# Altium footprint library TQFP-64_14x14x08P.PcbLib: 1 footprints
Each footprint in its own frame and in the unit in brackets; x right, y up, seen from the top. Pads: shape width x height; smd on the part's side, far side on the other; paste and mask are expansions set on the pad; w line width, h text height; cw(c..) or ccw(c..) is an arc to the next point about the centre after c.
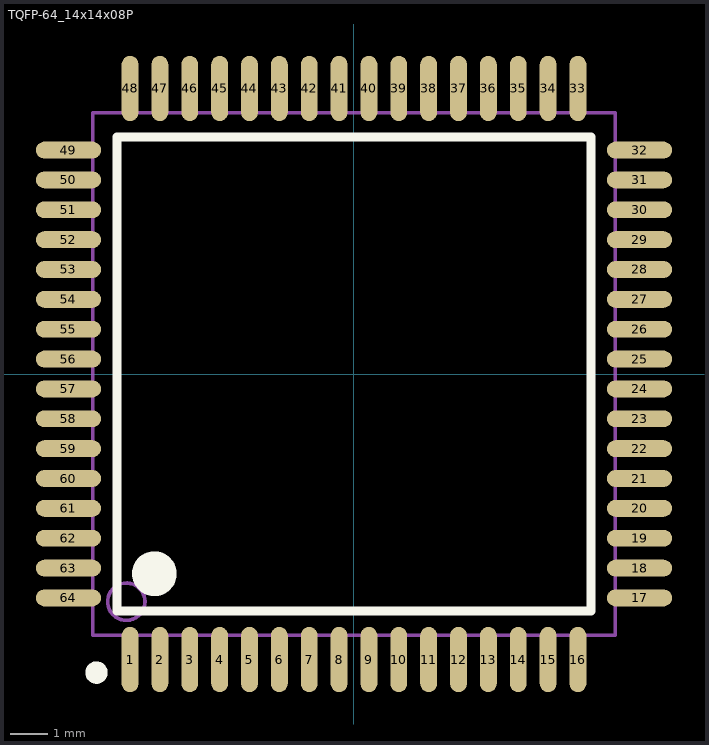
[diagram p0: the footprint, top view; thin cyan lines are the x and y axes]

## TQFP-64_14x14x08P [mm]
pads (64):
  oval 0.45x1.75 smd: 1(-6,-7.65) 2(-5.2,-7.65) 3(-4.4,-7.65) 4(-3.6,-7.65) 5(-2.8,-7.65) 6(-2,-7.65) 7(-1.2,-7.65) 8(-0.4,-7.65) 9(0.4,-7.65) 10(1.2,-7.65) 11(2,-7.65) 12(2.8,-7.65) 13(3.6,-7.65) 14(4.4,-7.65) 15(5.2,-7.65) 16(6,-7.65) 33(6,7.65) 34(5.2,7.65) 35(4.4,7.65) 36(3.6,7.65) 37(2.8,7.65) 38(2,7.65) 39(1.2,7.65) 40(0.4,7.65) 41(-0.4,7.65) 42(-1.2,7.65) 43(-2,7.65) 44(-2.8,7.65) 45(-3.6,7.65) 46(-4.4,7.65) 47(-5.2,7.65) 48(-6,7.65)
  oval 1.75x0.45 smd: 17(7.65,-6) 18(7.65,-5.2) 19(7.65,-4.4) 20(7.65,-3.6) 21(7.65,-2.8) 22(7.65,-2) 23(7.65,-1.2) 24(7.65,-0.4) 25(7.65,0.4) 26(7.65,1.2) 27(7.65,2) 28(7.65,2.8) 29(7.65,3.6) 30(7.65,4.4) 31(7.65,5.2) 32(7.65,6) 49(-7.65,6) 50(-7.65,5.2) 51(-7.65,4.4) 52(-7.65,3.6) 53(-7.65,2.8) 54(-7.65,2) 55(-7.65,1.2) 56(-7.65,0.4) 57(-7.65,-0.4) 58(-7.65,-1.2) 59(-7.65,-2) 60(-7.65,-2.8) 61(-7.65,-3.6) 62(-7.65,-4.4) 63(-7.65,-5.2) 64(-7.65,-6)
Top Overlay:
  circle w0.3: c-6.9,-8 r0.15
  circle w0.6: c-5.35,-5.35 r0.3
  lines w0.254: -6.35,-6.35 -6.35,6.35 6.35,6.35 6.35,-6.35 -6.35,-6.35
Mechanical 13:
  circle w0.1: c-6.1,-6.1 r0.5
  lines w0.1: -7,-7 -7,7 7,7 7,-7 -7,-7